# EAGLE library part DUAL (library Op Amp)
Standard Dual Operational AmplifierCommon devices include the TL072 and LM358.
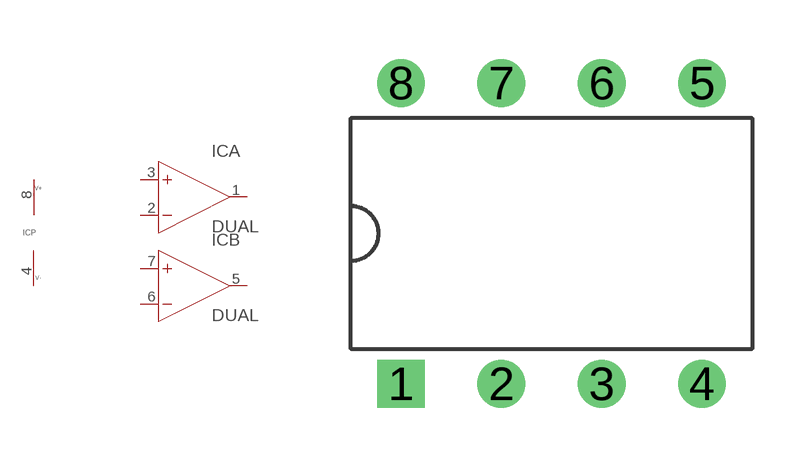
[diagram p1: symbol with the pads of DIL08; footprint DIL08]

Designator prefix IC; gates A=OP-AMP B=OP-AMP P=POWER

## DUALDIL  [DIL08]
1  A:OUT  out
2  A:IN-  in
3  A:IN+  in
4  P:VCC-  pwr
5  B:OUT  out
6  B:IN-  in
7  B:IN+  in
8  P:VCC+  pwr

## Footprint DIL08 (pad centres in mm)
Dual In Line 8pin Package
drill 0.7 square: 1 -3.81,-3.81
drill 0.7: 2 -1.27,-3.81; 3 1.27,-3.81; 4 3.81,-3.81; 5 3.81,3.81; 6 1.27,3.81; 7 -1.27,3.81; 8 -3.81,3.81